# EAGLE library part C64-USER-IO (library dan-commodore)
Commodore 64 User I/O edge connector Pinouts.ru: Commodore 64 / 128 User I/O connector pinout <http://pinouts.ru/Slots/dzm_dreh_pinout.shtml>
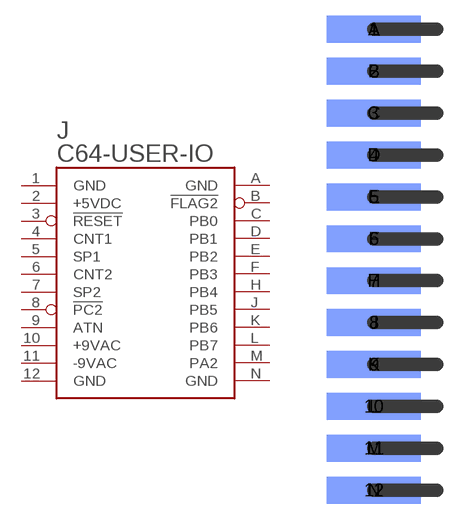
[diagram p0: symbol with the pads of DZM-12-DREH; footprint DZM-12-DREH]

Designator prefix J

## C64-USER-IO  [DZM-12-DREH]
1  GND
2  +5VDC
3  !RESET
4  CNT1
5  SP1
6  CNT2
7  SP2
8  !PC2
9  ATN
10  +9VAC
11  -9VAC
12  GND
A  GND
B  !FLAG2
C  PB0
D  PB1
E  PB2
F  PB3
H  PB4
J  PB5
K  PB6
L  PB7
M  PA2
N  GND

## Footprint DZM-12-DREH (pad centres in mm)
Commodore 64 User I/O edge connector Pinouts.ru: Commodore 64 / 128 User I/O connector pinout <http://pinouts.ru/Slots/dzm_dreh_pinout.shtml> Digikey: EDC305242-ND <http://search.digikey.com/scripts/DkSearch/dksus.dll?Detail&name=EDC305242-ND> (through-hole) EDC305240-ND <http://search.digikey.com/scripts/DkSearch/dksus.dll?vendor=0&keywords=EDC305240-ND> (solder-tab) EDAC P/N: 305-024-520-202 or 305-024-500-202
smd 8.89 x 2.54: 1 0,21.793; 2 0,17.831; 3 0,13.868; 4 0,9.906; 5 0,5.944; 6 0,1.981; 7 0,-1.981; 8 0,-5.944; 9 0,-9.906; 10 0,-13.868; 11 0,-17.831; 12 0,-21.793
smd 8.89 x 2.54 bottom: A 0,21.793; B 0,17.831; C 0,13.868; D 0,9.906; E 0,5.944; F 0,1.981; H 0,-1.981; J 0,-5.944; K 0,-9.906; L 0,-13.868; M 0,-17.831; N 0,-21.793